# Altium schematic symbol library MBAST21GBC7475KTCA01.SchLib: 1 symbol
Pins are listed as number, name and electrical type; pins without a type are passive.

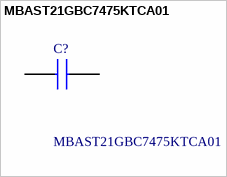
[diagram p0: symbol MBAST21GBC7475KTCA01]

## MBAST21GBC7475KTCA01
designator C?
4.7 F +/-10% 25V Ceramic Capacitor X7S 0805 (2012 Metric); Manufacturer_Name: TAIYO YUDEN; Geometry.Height: 1.45mm; Mouser Part Number: *; Mouser Price/Stock: *; Manufacturer_Part_Number: MBAST21GBC7475KTCA01; Datasheet Link: https://ds.yuden.co.jp/TYCOMPAS/eu/detail?pn=MBAST21GBC7475KTCA01&u=I
footprint CAPC2114X145N
pins: 1, 2